# Altium schematic symbol library SESD0402X1UN-0020-090.SchLib: 1 symbol
Pins are listed as number, name and electrical type; pins without a type are passive.

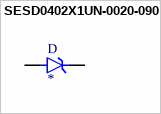
[diagram p0: symbol SESD0402X1UN-0020-090]

## SESD0402X1UN-0020-090
designator D
9.2V _Typ_ Clamp 2A _8/20Âµs_ Ipp Tvs Diode Surface Mount 0402/2DFN _1x0.60_; MF: Littelfuse Inc.; MP: SESD0402X1UN-0020-090; Package: 0402 TE Connectivity / AMP; Value: *; Availability: Unavailable; SnapEDA_Link: https://www.snapeda.com/parts/SESD0402X1UN-0020-090/Littelfuse%20Inc./view-part/865325/?ref=snap; Price: None
footprint DIODFN100X60X43-2N
pins: A, C